# Altium footprint library PcbLib1.PcbLib: 1 footprints
Each footprint in its own frame and in the unit in brackets; x right, y up, seen from the top. Pads: shape width x height; smd on the part's side, far side on the other; paste and mask are expansions set on the pad; w line width, h text height; cw(c..) or ccw(c..) is an arc to the next point about the centre after c.
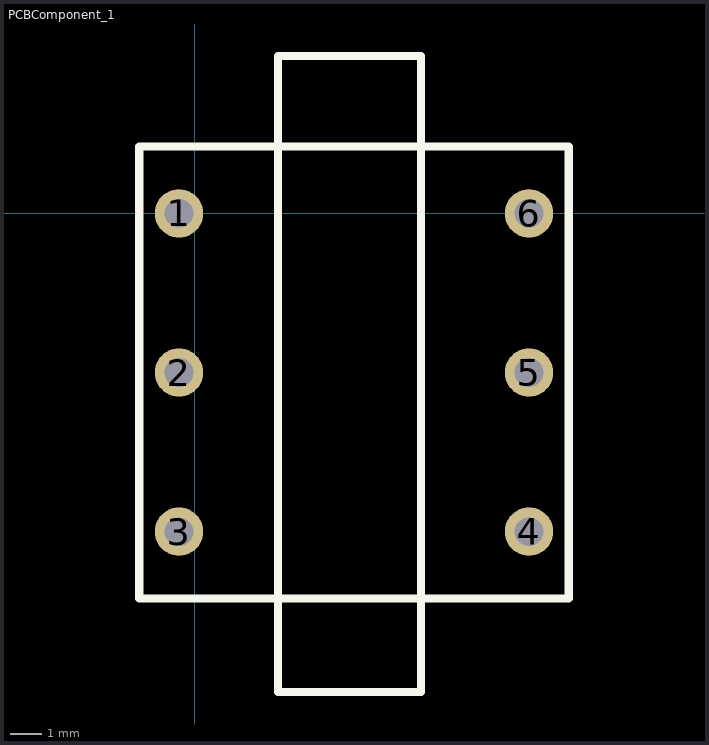
[diagram p0: the footprint, top view; thin cyan lines are the x and y axes]

## PCBComponent_1 [mm]
pads (6):
  round 1.524 hole 0.9: 1(-0.5,0) 2(-0.5,-5) 3(-0.5,-10) 4(10.5,-10) 5(10.5,-5) 6(10.5,0)
Top Overlay:
  lines w0.254: -1.75,-12.1 11.75,-12.1 11.75,2.1 -1.75,2.1 -1.75,-12.1 ; 2.612,-15.047 7.112,-15.047 7.112,4.953 2.612,4.953 2.612,-15.047
3D body: height 1, standoff -2.8, extent -1.1,-10.6 0.1,-9.4
3D body: height 1, standoff -2.8, extent -1.108,-5.588 0.092,-4.388
3D body: height 1, standoff -2.8, extent -1.1,-0.6 0.1,0.6
3D body: height 1, standoff -2.8, extent 9.9,-0.6 11.1,0.6
3D body: height 1, standoff -2.8, extent 9.9,-5.6 11.1,-4.4
3D body: height 1, standoff -2.8, extent 9.9,-10.6 11.1,-9.4
3D body: height 16, standoff 0.8, extent 2.54,-14.986 7.112,4.953
3D body: height 12.8, standoff 4, extent -1.094,-11 10.906,1
3D body: height 3.3, standoff 0.7, extent -1.778,-12.065 11.811,2.159
3D body: height 14.4, standoff 12.8, extent -1.778,-12.192 11.811,2.032